# EAGLE library part 74HC4046AD (library NXP_By_element14_Batch_1)
Phase-locked-loop with VCO
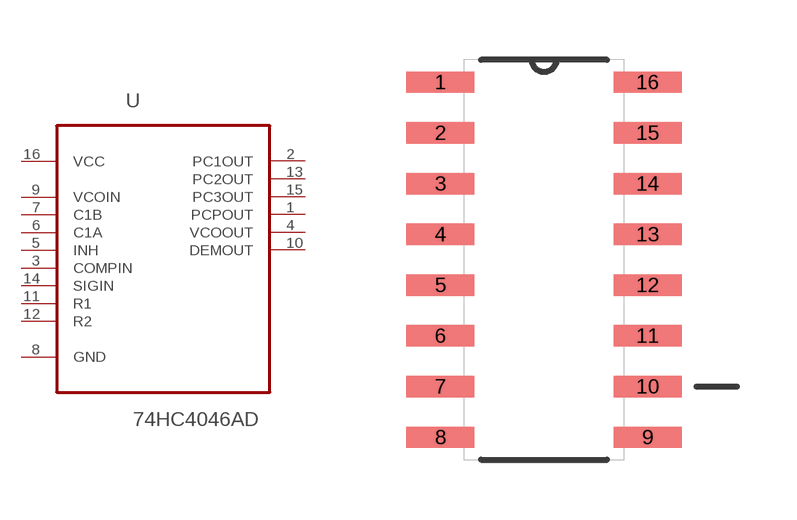
[diagram p93: symbol with the pads of SOIC127P600X175-16N; footprint SOIC127P600X175-16N]

Designator prefix U

## 74HC4046AD (MPN: 74HC4046AD; OC_FARNELL: 1085346; OC_NEWARK: 99K0596; P1I: o; PACKAGE: SOIC-16; SUPPLIER: NXP)  [SOIC127P600X175-16N]
1  PCPOUT  out
2  PC1OUT  out
3  COMPIN  in
4  VCOOUT  out
5  INH  in
6  C1A  in
7  C1B  in
8  GND  pas
9  VCOIN  in
10  DEMOUT  out
11  R1  in
12  R2  in
13  PC2OUT  out
14  SIGIN  in
15  PC3OUT  out
16  VCC  pwr

## Footprint SOIC127P600X175-16N (pad centres in mm)
smd 1.702 x 0.533: 1 -2.591,4.445; 2 -2.591,3.175; 3 -2.591,1.905; 4 -2.591,0.635; 5 -2.591,-0.635; 6 -2.591,-1.905; 7 -2.591,-3.175; 8 -2.591,-4.445; 9 2.591,-4.445; 10 2.591,-3.175; 11 2.591,-1.905; 12 2.591,-0.635; 13 2.591,0.635; 14 2.591,1.905; 15 2.591,3.175; 16 2.591,4.445